# EAGLE library part MC14043BDG (library ON Semiconductor_By_element14_Batch_1)
CMOS MSI
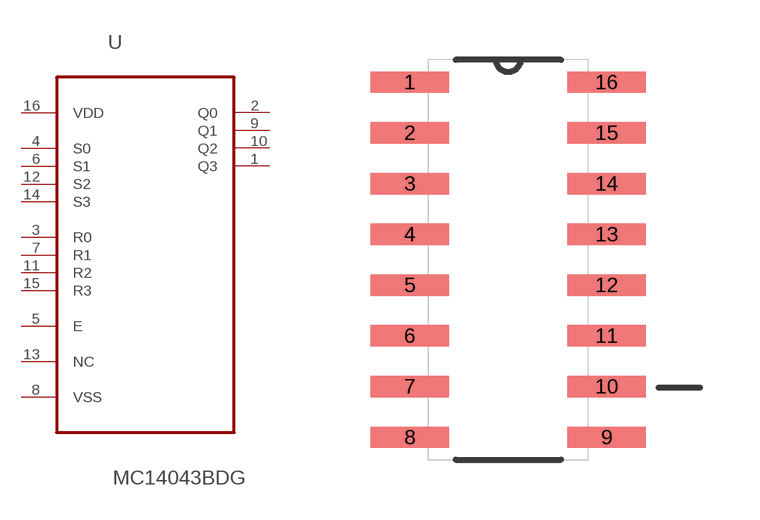
[diagram p229: symbol with the pads of SOIC127P600X175-16N; footprint SOIC127P600X175-16N]

Designator prefix U

## MC14043BDG (MPN: MC14043BDG; OC_FARNELL: 9665145; OC_NEWARK: 26K3936; P1I: o; PACKAGE: SOIC-16; SUPPLIER: ON SEMICONDUCTOR)  [SOIC127P600X175-16N]
1  Q3  out
2  Q0  out
3  R0  in
4  S0  in
5  E  in
6  S1  in
7  R1  in
8  VSS  pas
9  Q1  out
10  Q2  out
11  R2  in
12  S2  in
13  NC  nc
14  S3  in
15  R3  in
16  VDD  pwr

## Footprint SOIC127P600X175-16N (pad centres in mm)
smd 1.956 x 0.533: 1 -2.464,4.445; 2 -2.464,3.175; 3 -2.464,1.905; 4 -2.464,0.635; 5 -2.464,-0.635; 6 -2.464,-1.905; 7 -2.464,-3.175; 8 -2.464,-4.445; 9 2.464,-4.445; 10 2.464,-3.175; 11 2.464,-1.905; 12 2.464,-0.635; 13 2.464,0.635; 14 2.464,1.905; 15 2.464,3.175; 16 2.464,4.445